# Altium schematic symbol library 2021-07-12_23-30-13.SchLib: 1 symbol
Pins are listed as number, name and electrical type; pins without a type are passive.

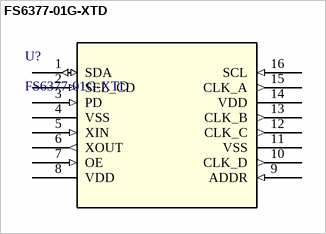
[diagram p0: symbol FS6377-01G-XTD]

## FS6377-01G-XTD
designator U?
No Description Available; Vendor: ON Semiconductor; SourceLibrary: ONSemi_2017-12-12_1; Manufacturer_Part_Number: FS6377-01G-XTD; Copyright: Copyright (C) 2016 Accelerated Designs. All rights reserved; RefDes: RefDes; Type: DEV
footprint SOIC-16_ONS
pins: 1 SDA (io), 2 SEL_CD (in), 3 PD (in), 4 VSS (power), 5 XIN (in), 6 XOUT (out), 7 OE (in), 8 VDD (power), 9 ADDR (in), 10 CLK_D (out), 11 VSS (power), 12 CLK_C (out), 13 CLK_B (out), 14 VDD (power), 15 CLK_A (out), 16 SCL (in)